# Altium footprint library CONN_TBLOCK_2P54.PcbLib: 38 footprints (part 3 of 3)
Each footprint in its own frame and in the unit in brackets; x right, y up, seen from the top. Pads: shape width x height; smd on the part's side, far side on the other; paste and mask are expansions set on the pad; w line width, h text height; cw(c..) or ccw(c..) is an arc to the next point about the centre after c.
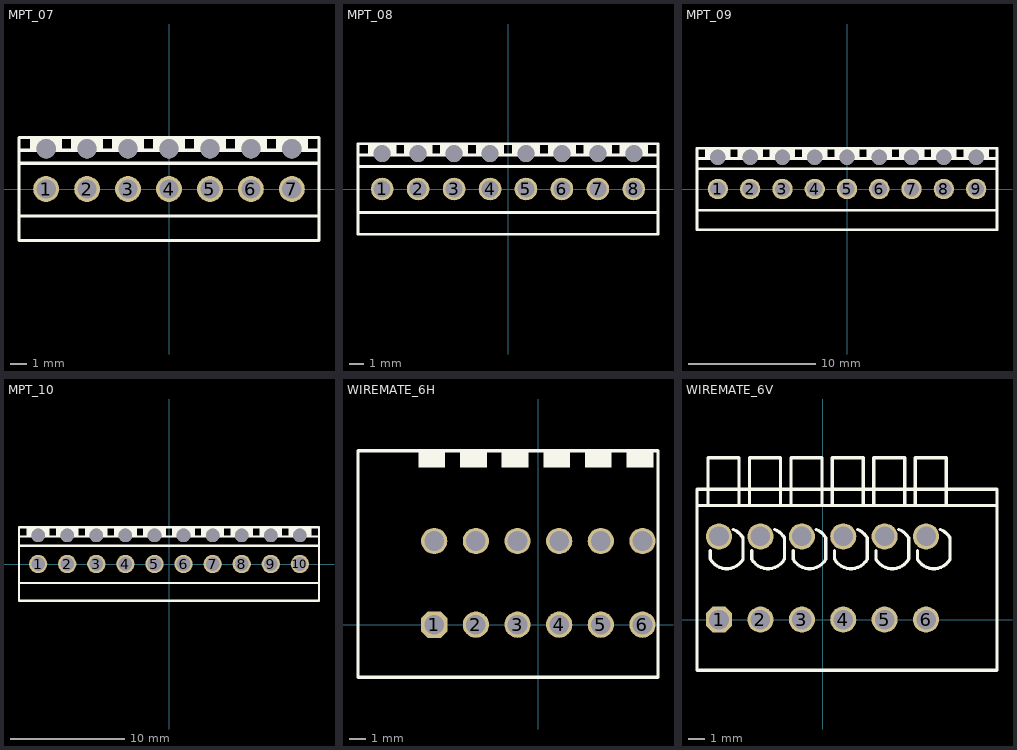
[diagram p2: the footprints below, top view; thin cyan lines are the x and y axes]

## MPT_07 [mm] "PHOENIX MPT, 2.54mm pitch, MPT 0,5/ 7-2,54"
height 8.6
pads (14):
  round 1.6 / inner oval 2x3 / far side oval 2x3 hole 1.2: 1(-7.62,0) 2(-5.08,0) 3(-2.54,0) 4(0,0) 5(2.54,0) 6(5.08,0) 7(7.62,0)
  round 1.2 hole 1.2 unplated: ""(-7.62,2.5) ""(-5.08,2.5) ""(-2.54,2.5) ""(0,2.5) ""(2.54,2.5) ""(5.08,2.5) ""(7.62,2.5)
Top Overlay:
  rectangle: -8.62,2.4 -6.62,3.2
  rectangle: -6.08,2.4 -4.08,3.2
  rectangle: -3.54,2.4 -1.54,3.2
  rectangle: -1,2.4 1,3.2
  rectangle: 1.54,2.4 3.54,3.2
  rectangle: 4.08,2.4 6.08,3.2
  rectangle: 6.62,2.4 8.62,3.2
  lines w0.2: -9.3,-1.668 9.3,-1.668 ; -9.3,1.6 9.3,1.6 ; -9.3,2.4 9.3,2.4 ; -9.3,-3.2 9.3,-3.2 9.3,3.2 -9.3,3.2 -9.3,-3.2
3D body "MPT-0-5-2-2-54_3D.stp": height 8.53, standoff -3.47, extent 3.55,-3.1 9.15,3.1
3D body "MPT-0-5-2-2-54_3D.stp": height 8.53, standoff -3.47, extent -9.15,-3.1 -3.55,3.1
3D body "MPT-0-5-3-2-54_3D.stp": height 8.53, standoff -3.47, extent -4.07,-3.1 4.07,3.1

## MPT_08 [mm] "PHOENIX MPT, 2.54mm pitch, MPT 0,5/ 8-2,54"
height 8.6
pads (16):
  round 1.6 / inner oval 2x3 / far side oval 2x3 hole 1.2: 1(-8.89,0) 2(-6.35,0) 3(-3.81,0) 4(-1.27,0) 5(1.27,0) 6(3.81,0) 7(6.35,0) 8(8.89,0)
  round 1.2 hole 1.2 unplated: ""(-8.89,2.5) ""(-6.35,2.5) ""(-3.81,2.5) ""(-1.27,2.5) ""(1.27,2.5) ""(3.81,2.5) ""(6.35,2.5) ""(8.89,2.5)
Top Overlay:
  rectangle: 7.89,2.4 9.89,3.2
  rectangle: 5.35,2.4 7.35,3.2
  rectangle: 2.81,2.4 4.81,3.2
  rectangle: 0.27,2.4 2.27,3.2
  rectangle: -2.27,2.4 -0.27,3.2
  rectangle: -4.81,2.4 -2.81,3.2
  rectangle: -7.35,2.4 -5.35,3.2
  rectangle: -9.89,2.4 -7.89,3.2
  lines w0.2: -10.6,-1.668 10.6,-1.668 ; -10.6,1.6 10.6,1.6 ; -10.6,2.4 10.6,2.4 ; -10.6,-3.2 -10.6,3.2 10.6,3.2 10.6,-3.2 -10.6,-3.2
3D body "MPT-0-5-3-2-54_3D.stp": height 8.53, standoff -3.47, extent 2.28,-3.1 10.42,3.1
3D body "MPT-0-5-3-2-54_3D.stp": height 8.53, standoff -3.47, extent -5.34,-3.1 2.8,3.1
3D body "MPT-0-5-2-2-54_3D.stp": height 8.53, standoff -3.47, extent -10.42,-3.1 -4.82,3.1

## MPT_09 [mm] "PHOENIX MPT, 2.54mm pitch, MPT 0,5/ 9-2,54"
height 8.6
pads (18):
  round 1.6 / inner oval 2x3 / far side oval 2x3 hole 1.2: 1(-10.16,0) 2(-7.62,0) 3(-5.08,0) 4(-2.54,0) 5(0,0) 6(2.54,0) 7(5.08,0) 8(7.62,0) 9(10.16,0)
  round 1.2 hole 1.2 unplated: ""(-10.16,2.5) ""(-7.62,2.5) ""(-5.08,2.5) ""(-2.54,2.5) ""(0,2.5) ""(2.54,2.5) ""(5.08,2.5) ""(7.62,2.5) ""(10.16,2.5)
Top Overlay:
  rectangle: 9.16,2.4 11.16,3.2
  rectangle: 6.62,2.4 8.62,3.2
  rectangle: 4.08,2.4 6.08,3.2
  rectangle: 1.54,2.4 3.54,3.2
  rectangle: -1,2.4 1,3.2
  rectangle: -3.54,2.4 -1.54,3.2
  rectangle: -6.08,2.4 -4.08,3.2
  rectangle: -8.62,2.4 -6.62,3.2
  rectangle: -11.16,2.4 -9.16,3.2
  lines w0.2: -11.8,-1.668 11.8,-1.668 ; -11.8,1.6 11.8,1.6 ; -11.8,2.4 11.8,2.4 ; -11.8,-3.2 -11.8,3.2 11.8,3.2 11.8,-3.2 -11.8,-3.2
3D body "MPT-0-5-3-2-54_3D.stp": height 8.53, standoff -3.47, extent 3.55,-3.1 11.69,3.1
3D body "MPT-0-5-3-2-54_3D.stp": height 8.53, standoff -3.47, extent -4.07,-3.1 4.07,3.1
3D body "MPT-0-5-3-2-54_3D.stp": height 8.53, standoff -3.47, extent -11.69,-3.1 -3.55,3.1

## MPT_10 [mm] "PHOENIX MPT, 2.54mm pitch, MPT 0,5/ 10-2,54"
height 8.6
pads (20):
  round 1.6 / inner oval 2x3 / far side oval 2x3 hole 1.2: 1(-11.43,0) 2(-8.89,0) 3(-6.35,0) 4(-3.81,0) 5(-1.27,0) 6(1.27,0) 7(3.81,0) 8(6.35,0) 9(8.89,0) 10(11.43,0)
  round 1.2 hole 1.2 unplated: ""(-11.43,2.5) ""(-8.89,2.5) ""(-6.35,2.5) ""(-3.81,2.5) ""(-1.27,2.5) ""(1.27,2.5) ""(3.81,2.5) ""(6.35,2.5) ""(8.89,2.5) ""(11.43,2.5)
Top Overlay:
  rectangle: 10.43,2.4 12.43,3.2
  rectangle: 7.89,2.4 9.89,3.2
  rectangle: 5.35,2.4 7.35,3.2
  rectangle: 2.81,2.4 4.81,3.2
  rectangle: 0.27,2.4 2.27,3.2
  rectangle: -2.27,2.4 -0.27,3.2
  rectangle: -4.81,2.4 -2.81,3.2
  rectangle: -7.35,2.4 -5.35,3.2
  rectangle: -9.89,2.4 -7.89,3.2
  rectangle: -12.43,2.4 -10.43,3.2
  lines w0.2: -13.1,-1.668 13.1,-1.668 ; -13.1,1.6 13.1,1.6 ; -13.1,2.4 13.1,2.4 ; -13.1,-3.2 -13.1,3.2 13.1,3.2 13.1,-3.2 -13.1,-3.2
3D body "MPT-0-5-3-2-54_3D.stp": height 8.53, standoff -3.47, extent 4.82,-3.1 12.96,3.1
3D body "MPT-0-5-2-2-54_3D.stp": height 8.53, standoff -3.47, extent -0.26,-3.1 5.34,3.1
3D body "MPT-0-5-3-2-54_3D.stp": height 8.53, standoff -3.47, extent -7.88,-3.1 0.26,3.1
3D body "MPT-0-5-2-2-54_3D.stp": height 8.53, standoff -3.47, extent -12.96,-3.1 -7.36,3.1

## WIREMATE_6H [mm] "Terminal Block Spring,  pitch 2.54mm, Horizontal, WIRE MATE 6, TE,"
height 13.6
pads (12):
  oct 1.6x1.6 / inner oct 1.6x1.6 / far side oct 1.6x2.4 hole 1.2: 1(-6.35,0)
  round 1.6 / inner round 1.6 / far side oval 1.6x2.4 hole 1.2: 2(-3.81,0) 3(-1.27,0) 4(1.27,0) 5(3.81,0) 6(6.35,0) ""(-6.35,5.1) ""(-3.81,5.1) ""(-1.27,5.1) ""(1.27,5.1) ""(3.81,5.1) ""(6.35,5.1)
Top Overlay:
  region: -7.3,10.6 -7.3,9.6 -5.7,9.6 -5.7,10.6
  region: -4.76,10.6 -4.76,9.6 -3.16,9.6 -3.16,10.6
  region: -2.22,10.6 -2.22,9.6 -0.62,9.6 -0.62,10.6
  region: 0.32,10.6 0.32,9.6 1.92,9.6 1.92,10.6
  region: 2.86,10.6 2.86,9.6 4.46,9.6 4.46,10.6
  region: 5.4,10.6 5.4,9.6 7,9.6 7,10.6
  lines w0.2: -11,-3.2 -11,10.6 7.3,10.6 7.3,-3.2 -11,-3.2
3D body "c-1-2834016-6-1-3d.stp": height 13, standoff -3.3, extent -10.97,-3.1 7.27,10.504

## WIREMATE_6V [mm] "Terminal Block Spring,  pitch 2.54mm, Vertical, WIRE MATE 6, TE"
height 13.6
pads (12):
  oct 1.6x1.6 / inner oct 1.6x1.6 / far side oct 1.6x2.4 hole 1.2: 1(-6.35,0)
  round 1.6 / inner round 1.6 / far side oval 1.6x2.4 hole 1.2: 2(-3.81,0) 3(-1.27,0) 4(1.27,0) 5(3.81,0) 6(6.35,0) ""(-6.35,5.1) ""(-3.81,5.1) ""(-1.27,5.1) ""(1.27,5.1) ""(3.81,5.1) ""(6.35,5.1)
Top Overlay:
  lines w0.2: -7.7,7 10.7,7 ; -7.02,7 -7.02,9.92 -5.12,9.92 -5.12,7 ; -6.88,3.72 -6.88,4.22 ; -6.876,3.695 ccw(c-5.88,4.27) -4.884,3.695 ; -5.478,5.524 cw(c-5.876,4.445) -4.88,5.02 -4.88,3.72 ; -4.48,7 -4.48,9.92 -2.58,9.92 -2.58,7 ; -4.34,3.72 -4.34,4.22 ; -4.336,3.695 ccw(c-3.34,4.27) -2.344,3.695 ; -2.938,5.524 cw(c-3.336,4.445) -2.34,5.02 -2.34,3.72 ; -1.94,7 -1.94,9.92 -0.04,9.92 -0.04,7 ; -1.8,3.72 -1.8,4.22 ; -1.796,3.695 ccw(c-0.8,4.27) 0.196,3.695 ; -0.398,5.524 cw(c-0.796,4.445) 0.2,5.02 0.2,3.72 ; 0.6,7 0.6,9.92 2.5,9.92 2.5,7 ; 0.74,3.72 0.74,4.22 ; 0.744,3.695 ccw(c1.74,4.27) 2.736,3.695 ; 2.142,5.524 cw(c1.744,4.445) 2.74,5.02 2.74,3.72 ; 3.14,7 3.14,9.92 5.04,9.92 5.04,7 ; 3.28,3.72 3.28,4.22 ; 3.284,3.695 ccw(c4.28,4.27) 5.276,3.695 ; 4.682,5.524 cw(c4.284,4.445) 5.28,5.02 5.28,3.72 ; 5.68,7 5.68,9.92 7.58,9.92 7.58,7 ; 5.82,3.72 5.82,4.22 ; 5.824,3.695 ccw(c6.82,4.27) 7.816,3.695 ; 7.222,5.524 cw(c6.824,4.445) 7.82,5.02 7.82,3.72 ; -7.7,-3.1 10.7,-3.1 10.7,8 -7.7,8 -7.7,-3.1
3D body "c-1-2834015-6-1-3d.stp": height 13.6, standoff -4.87, extent -7.62,-3 10.62,9.8